# Altium footprint library 32_TQFP.PcbLib: 1 footprints
Each footprint in its own frame and in the unit in brackets; x right, y up, seen from the top. Pads: shape width x height; smd on the part's side, far side on the other; paste and mask are expansions set on the pad; w line width, h text height; cw(c..) or ccw(c..) is an arc to the next point about the centre after c.
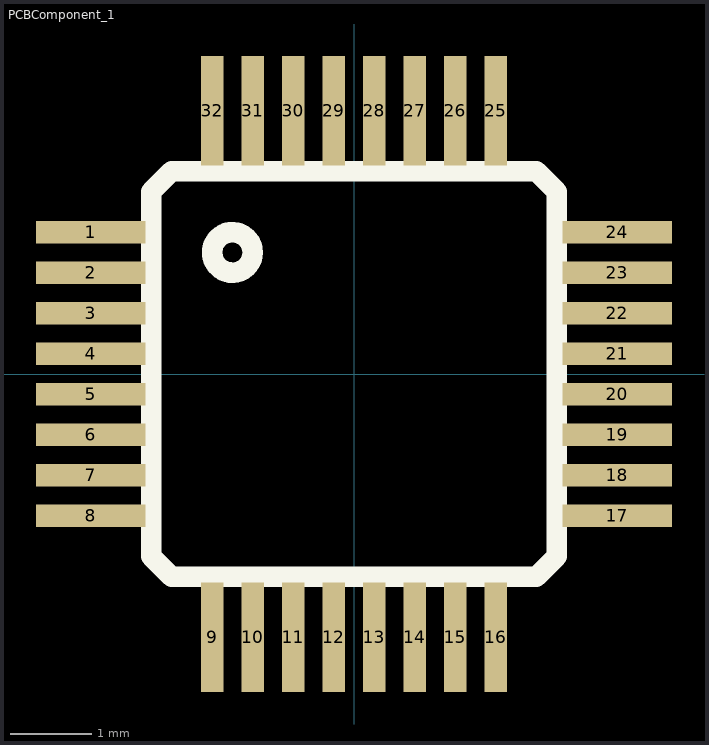
[diagram p0: the footprint, top view; thin cyan lines are the x and y axes]

## PCBComponent_1 [mm]
pads (32):
  rect 1.35x0.28 smd: 1(-3.25,1.75) 2(-3.25,1.25) 3(-3.25,0.75) 4(-3.25,0.25) 5(-3.25,-0.25) 6(-3.25,-0.75) 7(-3.25,-1.25) 8(-3.25,-1.75) 17(3.25,-1.75) 18(3.25,-1.25) 19(3.25,-0.75) 20(3.25,-0.25) 21(3.25,0.25) 22(3.25,0.75) 23(3.25,1.25) 24(3.25,1.75)
  rect 0.28x1.35 smd: 9(-1.75,-3.25) 10(-1.25,-3.25) 11(-0.75,-3.25) 12(-0.25,-3.25) 13(0.25,-3.25) 14(0.75,-3.25) 15(1.25,-3.25) 16(1.75,-3.25) 25(1.75,3.25) 26(1.25,3.25) 27(0.75,3.25) 28(0.25,3.25) 29(-0.25,3.25) 30(-0.75,3.25) 31(-1.25,3.25) 32(-1.75,3.25)
Top Overlay:
  circle w0.254: c-1.5,1.5 r0.25
  lines w0.254: -2.5,-2.25 -2.5,2.25 -2.25,2.5 2.25,2.5 2.5,2.25 2.5,-2.25 2.25,-2.5 -2.25,-2.5 -2.5,-2.25